# Altium integrated library Dipl_Lib.IntLib: 18 symbols
Pins are listed as number, name and electrical type; pins without a type are passive.

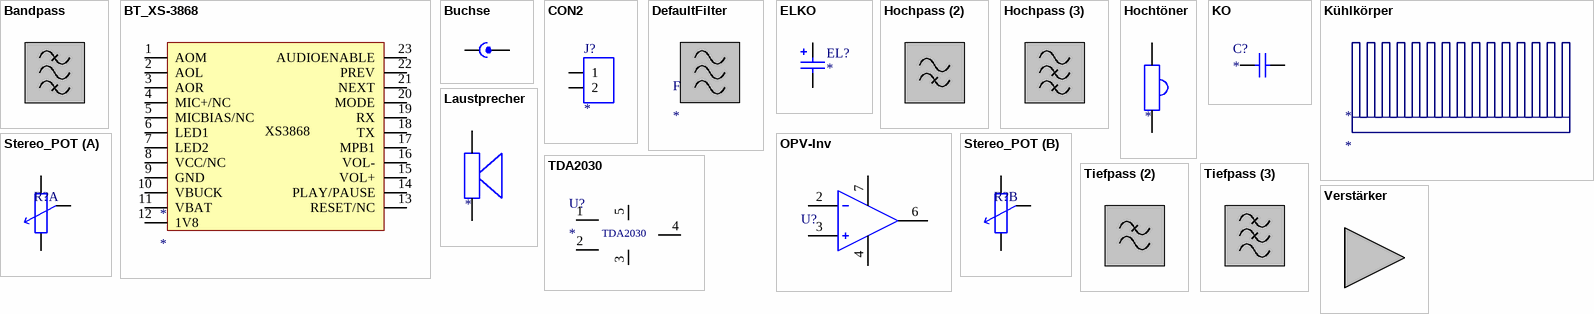
[diagram p0: symbols Bandpass to Verstärker]

## Bandpass
designator *  (value not drawn)

## BT_XS-3868
designator *
footprint XS3868
footprint XS3868Adapter
pins: 1 AOM, 2 AOL, 3 AOR, 4 MIC+/NC, 5 MICBIAS/NC, 6 LED1, 7 LED2, 8 VCC/NC, 9 GND, 10 VBUCK, 11 VBAT, 12 1V8, 13 RESET/NC, 14 PLAY/PAUSE, 15 VOL+, 16 VOL-, 17 MPB1, 18 TX, 19 RX, 20 MODE, 21 NEXT, 22 PREV, 23 AUDIOENABLE
text: XS3868

## Buchse
designator *  (value not drawn)
pins: 0, 1

## CON2
designator J?
Stecker
footprint SIP-2
footprint KL-2
footprint POWER-2
footprint Lusterklemme (Male+Female(Male Onboard)
pins: 1, 2

## DefaultFilter
designator F

## ELKO
designator EL?
Elko
footprint RB-.1/.2
footprint RB-.1/.3
footprint RB-.2/.4
footprint RB-.3/.6
footprint RB-.2/.4/13 (d = 13mm)
pins: 1, 2

## Hochpass (2)
designator *  (value not drawn)

## Hochpass (3)
designator *  (value not drawn)

## Hochtöner
designator *  (value not drawn)
pins: 1, 2

## KO
designator C?
Kondensator
footprint Rad-18/5/15 (0,22µF/250V/radial)
footprint RAD-7/4.5/5 (0.33µF)
footprint RAD-circle/5 (Keramik-KO Vertikal-Kreisförmig)
footprint RAD-pearl/5 (Keramik-KO)
pins: 1, 2

## Kühlkörper
designator *

## Laustprecher
designator *  (value not drawn)
pins: 1, 2

## OPV-Inv
designator U?  (value not drawn)
pins: 2 I, 3 NI, 4, 6 out, 7 Vcc

## Stereo_POT
designator R?  (value not drawn)
footprint Stereo_POT
part A pins: 1, 2, 3
part B pins: 4, 5, 6

## TDA2030
designator U?
footprint TDA2030 (Hifi Audio Amplifier)
pins: 1, 2, 3, 4, 5

## Tiefpass (2)
designator *  (value not drawn)

## Tiefpass (3)
designator *  (value not drawn)

## Verstärker
designator *  (value not drawn)